# Altium footprint library Capacitor.PcbLib: 38 footprints (part 3 of 3)
Each footprint in its own frame and in the unit in brackets; x right, y up, seen from the top. Pads: shape width x height; smd on the part's side, far side on the other; paste and mask are expansions set on the pad; w line width, h text height; cw(c..) or ccw(c..) is an arc to the next point about the centre after c.
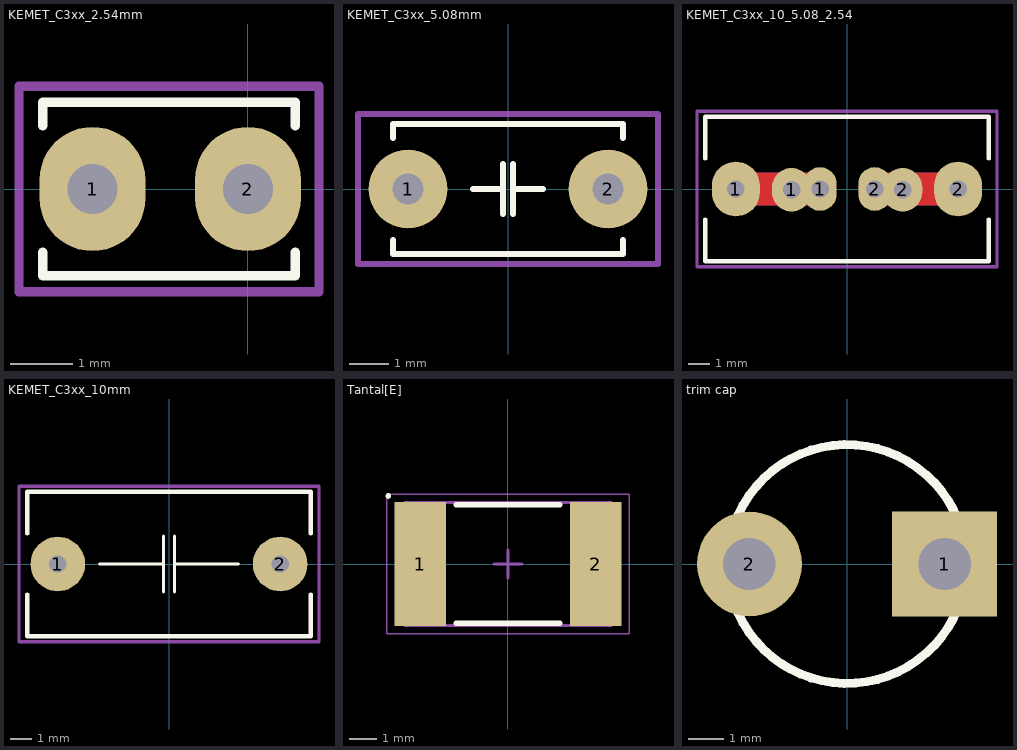
[diagram p2: the footprints below, top view; thin cyan lines are the x and y axes]

## KEMET_C3xx_2.54mm [mm]
pads (2):
  oval 1.7x2 hole 0.8: 1(-2.5,0) 2(0,0)
Top Overlay:
  lines w0.15: -3.302,-1.016 -3.302,-1.397 0.762,-1.397 0.762,-1.016 ; -3.302,1.016 -3.302,1.397 0.762,1.397 0.762,1.016
Mechanical 15:
  lines w0.15: -3.683,-1.651 -3.683,1.651 1.143,1.651 1.143,-1.651 -3.683,-1.651
3D body "User Library-caprr254w55l381t254h684.STEP": height 6.84, standoff -2.5, extent -3.175,-1.27 0.635,1.27

## KEMET_C3xx_5.08mm [mm]
pads (2):
  round 2 hole 0.8: 1(-2.54,0) 2(2.54,0)
Top Overlay:
  lines w0.15: -2.921,-1.3 -2.921,-1.651 2.921,-1.651 2.921,-1.3 ; -2.921,1.3 -2.921,1.651 2.921,1.651 2.921,1.3 ; -0.889,0 -0.127,0 ; -0.127,-0.635 -0.127,0.635 ; 0.127,-0.635 0.127,0.635 ; 0.127,0 0.889,0
Mechanical 15:
  lines w0.15: -3.81,-1.905 3.81,-1.905 3.81,1.905 -3.81,1.905 -3.81,-1.905
3D body "C322C104K3G5TA7301.step": height 7.81, standoff -15.29, extent -2.797,-1.604 2.793,1.581

## KEMET_C3xx_10_5.08_2.54 [mm]
pads (6):
  oval 2.2x2.5 hole 0.8: 1(-5.08,0) 2(5.08,0)
  oval 1.8x2 hole 0.8: 1(-2.537,-0.031) 2(2.543,-0.031)
  oval 1.5x2 hole 0.8: 1(-1.23,0) 2(1.27,0)
Top Layer:
  lines w1.5: -5.08,0 -1.27,0 ; 1.27,0 5.08,0
Bottom Layer:
  lines w1.5: -5.08,0 -1.27,0 ; 1.27,0 5.08,0
Top Overlay:
  lines w0.2: -6.477,-1.397 -6.477,-3.302 6.477,-3.302 6.477,-1.397 ; -6.477,1.397 -6.477,3.302 6.477,3.302 6.477,1.397
Mechanical 15:
  lines w0.15: -6.858,-3.556 6.858,-3.556 6.858,3.556 -6.858,3.556 -6.858,-3.556
3D body "User Library-Capacitor radial non Polarized3.STEP": height 10.75, standoff -2.75, extent -6.25,-3.1 6.25,3.1

## KEMET_C3xx_10mm [mm]
pads (2):
  round 2.5 hole 0.8: 1(-5.08,0) 2(5.08,0)
Top Overlay:
  lines w0.15: -3.175,0 -0.254,0 ; -0.254,-1.27 -0.254,1.27 ; 0.254,-1.27 0.254,1.27 ; 0.254,0 3.175,0
  lines w0.2: -6.477,-1.397 -6.477,-3.302 6.477,-3.302 6.477,-1.397 ; -6.477,1.397 -6.477,3.302 6.477,3.302 6.477,1.397
Mechanical 15:
  lines w0.15: -6.858,-3.556 6.858,-3.556 6.858,3.556 -6.858,3.556 -6.858,-3.556
3D body "User Library-Capacitor radial non Polarized3.STEP": height 10.75, standoff -2.75, extent -6.25,-3.1 6.25,3.1

## Tantal[E] [mm] "Chip Capacitor, 2-Leads, Body 7,35x4,35mm, IPC Medium Density"
height 4.2
pads (2):
  rect 1.85x4.45 smd: 1(-3.15,0) 2(3.15,0)
Top Overlay:
  circle w0.1: c-4.287,2.437 r0.05
  lines w0.2: -1.85,-2.125 1.85,-2.125 ; -1.85,2.125 1.85,2.125
Mechanical 13:
  lines w0.1: -3.7,-2.2 -3.7,2.2 3.7,2.2 3.7,-2.2 -3.7,-2.2
Mechanical 15:
  lines w0.05: -4.35,-2.5 -4.35,2.5 4.35,2.5 4.35,-2.5 -4.35,-2.5
  lines w0.1: -0.5,0 0.5,0 ; 0,-0.5 0,0.5
3D body "CAPCP7444X42N.step": height 4.2, standoff 0, extent -3.7,-2.2 3.7,2.2

## trim cap [mm]
pads (2):
  rect 3x3 hole 1.5: 1(2.794,0)
  round 3 hole 1.5: 2(-2.794,0)
Top Overlay:
  circle w0.254: c0,0 r3.417
3D body "User Library-Johanson_9610.step": height 2.92, standoff -4.19, extent -3.43,-3.43 3.43,3.43